# EAGLE library part MAGJACK (library icnh)
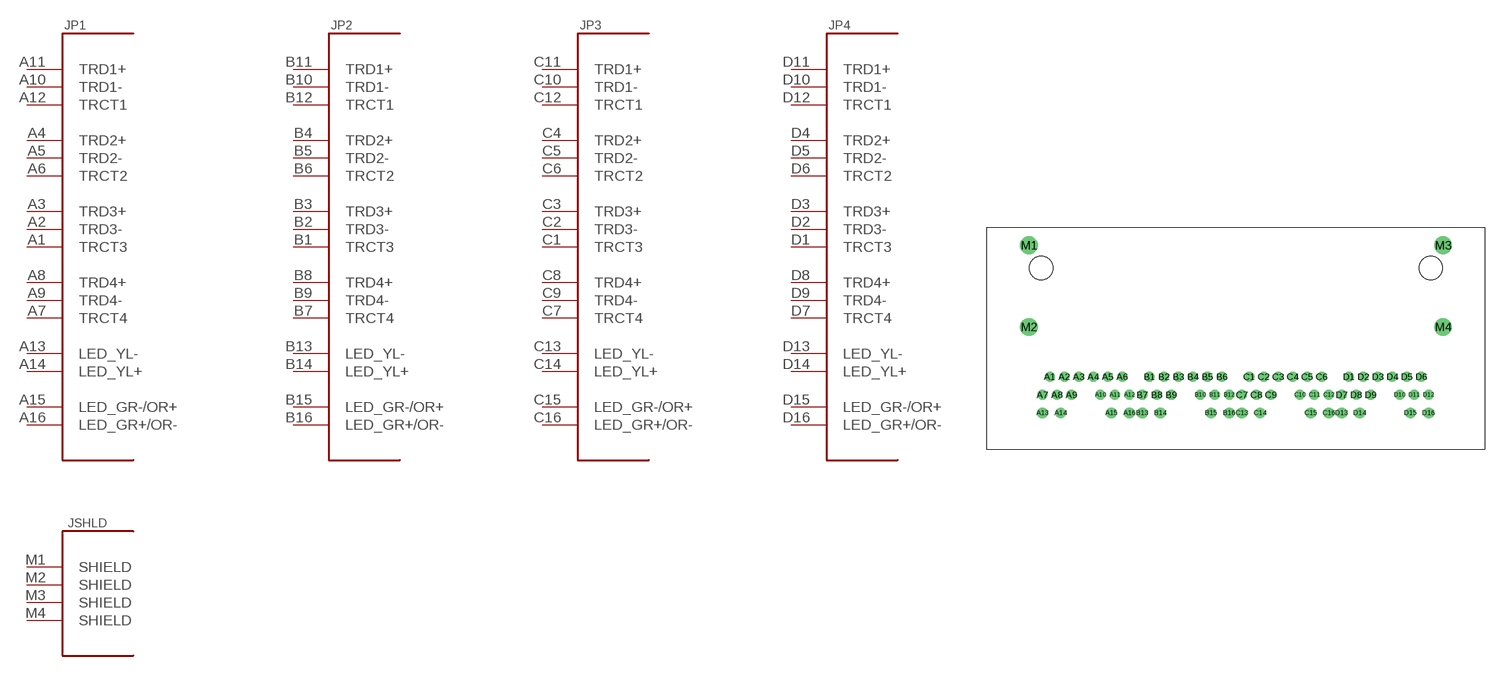
[diagram p13: symbol with the pads of MAGJACK_0826-1X4T-23-F; footprint MAGJACK_0826-1X4T-23-F]

Designator prefix J; gates P1=MAGJACK P2=MAGJACK P3=MAGJACK P4=MAGJACK SHLD=MAGJACK_SH

## MAGJACK  [MAGJACK_0826-1X4T-23-F]
A1  P1:TRCT3
A2  P1:TRD3-
A3  P1:TRD3+
A4  P1:TRD2+
A5  P1:TRD2-
A6  P1:TRCT2
A7  P1:TRCT4
A8  P1:TRD4+
A9  P1:TRD4-
A10  P1:TRD1-
A11  P1:TRD1+
A12  P1:TRCT1
A13  P1:LED_YL-
A14  P1:LED_YL+
A15  P1:LED_GR-/OR+
A16  P1:LED_GR+/OR-
B1  P2:TRCT3
B2  P2:TRD3-
B3  P2:TRD3+
B4  P2:TRD2+
B5  P2:TRD2-
B6  P2:TRCT2
B7  P2:TRCT4
B8  P2:TRD4+
B9  P2:TRD4-
B10  P2:TRD1-
B11  P2:TRD1+
B12  P2:TRCT1
B13  P2:LED_YL-
B14  P2:LED_YL+
B15  P2:LED_GR-/OR+
B16  P2:LED_GR+/OR-
C1  P3:TRCT3
C2  P3:TRD3-
C3  P3:TRD3+
C4  P3:TRD2+
C5  P3:TRD2-
C6  P3:TRCT2
C7  P3:TRCT4
C8  P3:TRD4+
C9  P3:TRD4-
C10  P3:TRD1-
C11  P3:TRD1+
C12  P3:TRCT1
C13  P3:LED_YL-
C14  P3:LED_YL+
C15  P3:LED_GR-/OR+
C16  P3:LED_GR+/OR-
D1  P4:TRCT3
D2  P4:TRD3-
D3  P4:TRD3+
D4  P4:TRD2+
D5  P4:TRD2-
D6  P4:TRCT2
D7  P4:TRCT4
D8  P4:TRD4+
D9  P4:TRD4-
D10  P4:TRD1-
D11  P4:TRD1+
D12  P4:TRCT1
D13  P4:LED_YL-
D14  P4:LED_YL+
D15  P4:LED_GR-/OR+
D16  P4:LED_GR+/OR-
M1  SHLD:SHIELD  pas
M2  SHLD:SHIELD  pas
M3  SHLD:SHIELD  pas
M4  SHLD:SHIELD  pas

## Footprint MAGJACK_0826-1X4T-23-F (pad centres in mm)
drill 0.889: A1 -53.34,-15.24; A2 -51.308,-15.24; A3 -49.276,-15.24; A4 -47.244,-15.24; A5 -45.212,-15.24; A6 -43.18,-15.24; A7 -54.356,-17.78; A8 -52.324,-17.78; A9 -50.292,-17.78; A10 -46.228,-17.78; A11 -44.196,-17.78; A12 -42.164,-17.78; B1 -39.37,-15.24; B2 -37.338,-15.24; B3 -35.306,-15.24; B4 -33.274,-15.24; B5 -31.242,-15.24; B6 -29.21,-15.24; B7 -40.386,-17.78; B8 -38.354,-17.78; B9 -36.322,-17.78; B10 -32.258,-17.78; B11 -30.226,-17.78; B12 -28.194,-17.78; C1 -25.4,-15.24; C2 -23.368,-15.24; C3 -21.336,-15.24; C4 -19.304,-15.24; C5 -17.272,-15.24; C6 -15.24,-15.24; C7 -26.416,-17.78; C8 -24.384,-17.78; C9 -22.352,-17.78; C10 -18.288,-17.78; C11 -16.256,-17.78; C12 -14.224,-17.78; D1 -11.43,-15.24; D2 -9.398,-15.24; D3 -7.366,-15.24; D4 -5.334,-15.24; D5 -3.302,-15.24; D6 -1.27,-15.24; D7 -12.446,-17.78; D8 -10.414,-17.78; D9 -8.382,-17.78; D10 -4.318,-17.78; D11 -2.286,-17.78; D12 -0.254,-17.78
drill 1.016: A13 -54.356,-20.32; A14 -51.816,-20.32; A15 -44.704,-20.32; A16 -42.164,-20.32; B13 -40.386,-20.32; B14 -37.846,-20.32; B15 -30.734,-20.32; B16 -28.194,-20.32; C13 -26.416,-20.32; C14 -23.876,-20.32; C15 -16.764,-20.32; C16 -14.224,-20.32; D13 -12.446,-20.32; D14 -9.906,-20.32; D15 -2.794,-20.32; D16 -0.254,-20.32
drill 1.651: M1 -56.261,3.175; M2 -56.261,-8.255; M3 1.778,3.175; M4 1.778,-8.255
hole 3.251 at -54.547,0
hole 3.251 at 0.064,0